# Altium schematic symbol library 2EDB8259F.SchLib: 1 symbol
Pins are listed as number, name and electrical type; pins without a type are passive.

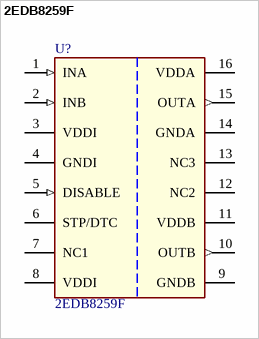
[diagram p0: symbol 2EDB8259F]

## 2EDB8259F
designator U?
Dual-Channel Isolated Gate Driver; Manufacturer: Infineon Technologies; Manufacturer Order Number: 2EDB8259F; PackageReference: PG-DSO-16
pins: 1 INA (in) "Input signal channel A", 2 INB (in) "Input signal channel B", 3 VDDI (power) "Input-side supply voltage", 4 GNDI (power) "Ground primary-side", 5 DISABLE (in) "Disable input channel A and B", 6 STP/DTC "Shoot-through Protection and Dead-Time Control", 7 NC1 "No internal connection", 8 VDDI (power) "Input-side supply voltage", 9 GNDB (power) "Ground secondary-side channel B", 10 OUTB (out) "Output secondary-side channel B", 11 VDDB (power) "Supply secondary-side channel B", 12 NC2 "No internal connection", 13 NC3 "No internal connection", 14 GNDA (power) "Ground secondary-side channel A", 15 OUTA (out) "Output secondary-side channel A", 16 VDDA (power) "Supply voltage for output channel A"